# Altium integrated library Infineon_Power_MOSFET.IntLib: 1448 symbols (part 38 of 47)
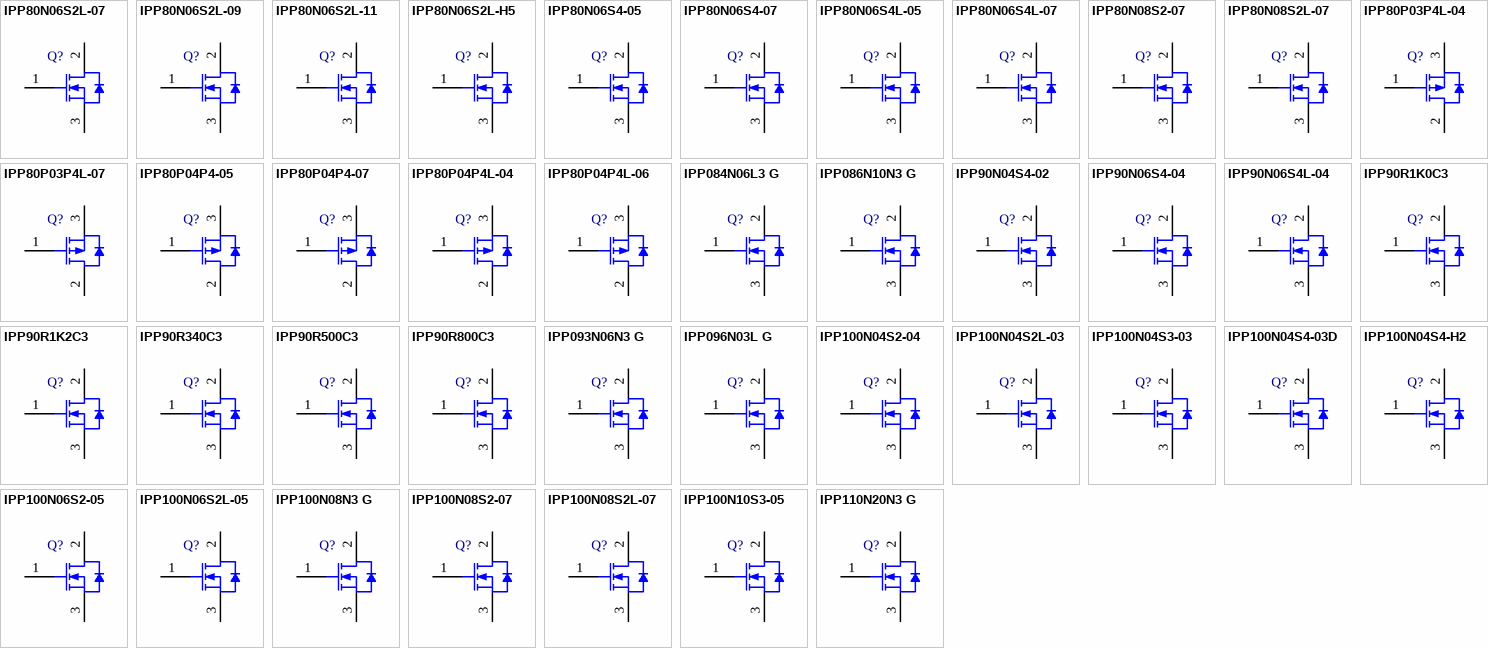
[diagram p74: symbols IPP80N06S2L-07 to IPP110N20N3 G]

## IPP100N06S2-05
designator Q?
OptiMOS Power-Transistor, 55 V VDS, 100 A ID, PG-TO220-3-1, Tube, Green; Manufacturer: Infineon; PartNumber: IPP100N06S2-05; Green: TRUE; ID (max): 100 A; IDpuls (max): 400 A; Ptot (max): 300 W; QG: 130 nC; RDS (on) (max) (@10V): 5 mOhm; RthJC (max): 0.5 K/W; VDS (max): 55 V; VGS(th) (max): 4 V; VGS(th) (min): 2.1 V; DatasheetVersion: Rev. 1.0; PackageVersion: Jul-12; PackageReference: PG-TO220-3-1; PackageDescription: 3-Pin Plastic (Green) Transistor Single Outline Package, 10 x 9.25 mm Body, 2.54 mm Pitch; Supplier 1: Mouser; Supplier Part Number 1: 726-IPP100N06S205; Supplier 2: Digi-Key; Supplier Part Number 2: IPP100N06S2-05-ND; Halogen-free: TRUE; Packing: Tube; Technology: OptiMOS; Mounting Technology: Through Hole; ComponentLink1Description: Manufacturer URL; ComponentLink1URL: http://www.infineon.com/; ComponentLink2Description: Datasheet; ComponentLink2URL: http://www.infineon.com/dgdl/IPP_B100N06S2-05_green.pdf?folderId=db3a304412b407950112b426db703ad9&fileId=db3a304412b407950112b43232be575e&location=en.Products.Automotive_ICs.Automotive_MOSFETs.Single__N-Channel_55V_MOSFETs.DATASHEET.IPP_B100N06S2-05_green.pdf; ComponentLink3Description: Package Specification; ComponentLink3URL: http://www.infineon.com/dgdl/BTS117_DS_14.pdf?folderId=db3a30431400ef68011421b54e2e0564&fileId=db3a30433a747525013abff8302d549c&location=en.Products.Automotive_ICs.Smart_High-_and_Low-Side_Switches.HITFET___TEMPFET__-_Smart_Low-Side_Switches.DATASHEET.BTS117_DS_14.pdf
footprint INF-PG-TO220-3-1 (FM, 3-Leads, Body 10x4.4mm, Pitch 2.54mm)
pins: 1 GATE, 2 DRAIN, 3 SOURCE

## IPP100N06S2L-05
designator Q?
OptiMOS Power-Transistor, 55 V VDS, 100 A ID, PG-TO220-3-1, Tube, Green; Manufacturer: Infineon; PartNumber: IPP100N06S2L-05; Green: TRUE; ID (max): 100 A; IDpuls (max): 400 A; Ptot (max): 300 W; QG: 170 nC; RDS (on) (max) (@10V): 4.7 mOhm; RDS (on) (max) (@4.5V): 5.9 mOhm; RthJC (max): 0.5 K/W; VDS (max): 55 V; VGS(th) (max): 2 V; VGS(th) (min): 1.2 V; DatasheetVersion: Rev. 1.0; PackageVersion: Jul-12; PackageReference: PG-TO220-3-1; PackageDescription: 3-Pin Plastic (Green) Transistor Single Outline Package, 10 x 9.25 mm Body, 2.54 mm Pitch; Supplier 1: Mouser; Supplier Part Number 1: 726-IPP100N06S2L05; Supplier 2: Digi-Key; Supplier Part Number 2: IPP100N06S2L-05-ND; Halogen-free: TRUE; Packing: Tube; Technology: OptiMOS; Mounting Technology: Through Hole; ComponentLink1Description: Manufacturer URL; ComponentLink1URL: http://www.infineon.com/; ComponentLink2Description: Datasheet; ComponentLink2URL: http://www.infineon.com/dgdl/IPP_B100N06S2L-05_green.pdf?folderId=db3a304412b407950112b408e8c90004&fileId=db3a304412b407950112b4322a685747&location=en.Products.Automotive_ICs.Automotive_MOSFETs.Single__N-Channel_55V_MOSFETs.DATASHEET.IPP_B100N06S2L-05_green.pdf; ComponentLink3Description: Package Specification; ComponentLink3URL: http://www.infineon.com/dgdl/BTS117_DS_14.pdf?folderId=db3a30431400ef68011421b54e2e0564&fileId=db3a30433a747525013abff8302d549c&location=en.Products.Automotive_ICs.Smart_High-_and_Low-Side_Switches.HITFET___TEMPFET__-_Smart_Low-Side_Switches.DATASHEET.BTS117_DS_14.pdf
footprint INF-PG-TO220-3-1 (FM, 3-Leads, Body 10x4.4mm, Pitch 2.54mm)
pins: 1 GATE, 2 DRAIN, 3 SOURCE

## IPP100N08N3 G
designator Q?
N-Channel OptiMOS 3 Power-Transistor, 80 V VDS, 70 A ID, -55 to 175 degC, PG-TO220-3-1, Tube, Green; Manufacturer: Infineon; PartNumber: IPP100N08N3 G; Green: TRUE; ID (max): 70 A; IDpuls (max): 280 A; Polarity: N; Ptot (max): 100 W; QG: 26 nC; RDS (on) (max): 9.7 mOhm; Rth: 1.5 K/W; RthJA (max): 62 K/W; RthJC (max): 1.5 K/W; VDS (max): 80 V; VGS(th) (max): 3.5 V; VGS(th) (min): 2 V; DatasheetVersion: Rev. 2.2; PackageVersion: Rev. 05, 08/2007; PackageReference: PG-TO220-3-1; PackageDescription: 3-Pin Plastic (Green) Transistor Single Outline Package, 10.03 x 8.98 mm Body, 2.54 mm Pitch; Supplier 1: Mouser; Supplier Part Number 1: 726-IPP100N08N3G; Supplier 2: Digi-Key; Supplier Part Number 2: IPP100N08N3 G-ND; Halogen-free: TRUE; Packing: Tube; Mounting Technology: Through Hole; ComponentLink1Description: Manufacturer URL; ComponentLink1URL: http://www.infineon.com/; ComponentLink2Description: Datasheet; ComponentLink2URL: http://www.infineon.com/dgdl/IPP_I_B100N08N3_Rev2.2.pdf?folderId=db3a304313b8b5a60113cee8763b02d7&fileId=db3a30431ddc9372011e071f53b82619; ComponentLink3Description: Package Specification; ComponentLink3URL: http://www.infineon.com/dgdl/IPP028N08N3_Rev1%5B1%5D.0.pdf?folderId=db3a304313b8b5a60113cee8763b02d7&fileId=db3a30432313ff5e0123a3c08e7326b5
footprint INF-PG-TO220-3-1_A_V (FM, 3-Leads, Body 10.03x8.98mm, Pitch 2.54mm)
pins: 1 GATE, 2 DRAIN, 3 SOURCE

## IPP100N08S2-07
designator Q?
OptiMOS Power-Transistor, 75 V VDS, 100 A ID, PG-TO220-3-1, Tube, Green; Manufacturer: Infineon; PartNumber: IPP100N08S2-07; Green: TRUE; ID (max): 100 A; IDpuls (max): 400 A; Ptot (max): 300 W; QG: 144 nC; RDS (on) (max) (@10V): 7.1 mOhm; RthJC (max): 0.5 K/W; VDS (max): 75 V; VGS(th) (max): 4 V; VGS(th) (min): 2.1 V; DatasheetVersion: Rev. 1.0; PackageVersion: Jul-12; PackageReference: PG-TO220-3-1; PackageDescription: 3-Pin Plastic (Green) Transistor Single Outline Package, 10 x 9.25 mm Body, 2.54 mm Pitch; Supplier 1: Mouser; Supplier Part Number 1: 726-IPP100N08S207; Supplier 2: Digi-Key; Supplier Part Number 2: IPP100N08S2-07-ND; Halogen-free: TRUE; Packing: Tube; Technology: OptiMOS; Mounting Technology: Through Hole; ComponentLink1Description: Manufacturer URL; ComponentLink1URL: http://www.infineon.com/; ComponentLink2Description: Datasheet; ComponentLink2URL: http://www.infineon.com/dgdl/IPP_B_I100N08S2-07_green.pdf?folderId=db3a304412b407950112b408e8c90004&fileId=db3a304412b407950112b426e4463ae7&location=en.Products.Automotive_ICs.Automotive_MOSFETs.Single__N-Channel_75V_MOSFETs.DATASHEET.IPP_B_I100N08S2-07_green.pdf; ComponentLink3Description: Package Specification; ComponentLink3URL: http://www.infineon.com/dgdl/BTS117_DS_14.pdf?folderId=db3a30431400ef68011421b54e2e0564&fileId=db3a30433a747525013abff8302d549c&location=en.Products.Automotive_ICs.Smart_High-_and_Low-Side_Switches.HITFET___TEMPFET__-_Smart_Low-Side_Switches.DATASHEET.BTS117_DS_14.pdf
footprint INF-PG-TO220-3-1 (FM, 3-Leads, Body 10x4.4mm, Pitch 2.54mm)
pins: 1 GATE, 2 DRAIN, 3 SOURCE

## IPP100N08S2L-07
designator Q?
OptiMOS Power-Transistor, 75 V VDS, 100 A ID, PG-TO220-3-1, Tube, Green; Manufacturer: Infineon; PartNumber: IPP100N08S2L-07; Green: TRUE; ID (max): 100 A; IDpuls (max): 400 A; Ptot (max): 300 W; QG: 182 nC; RDS (on) (max) (@10V): 6.8 mOhm; RthJC (max): 0.5 K/W; VDS (max): 75 V; VGS(th) (max): 2 V; VGS(th) (min): 1.2 V; DatasheetVersion: Rev. 1.0; PackageVersion: Jul-12; PackageReference: PG-TO220-3-1; PackageDescription: 3-Pin Plastic (Green) Transistor Single Outline Package, 10 x 9.25 mm Body, 2.54 mm Pitch; Supplier 1: Mouser; Supplier Part Number 1: 726-IPP100N08S2L07; Supplier 2: Digi-Key; Supplier Part Number 2: IPP100N08S2L-07-ND; Halogen-free: TRUE; Packing: Tube; Technology: OptiMOS; Mounting Technology: Through Hole; ComponentLink1Description: Manufacturer URL; ComponentLink1URL: http://www.infineon.com/; ComponentLink2Description: Datasheet; ComponentLink2URL: http://www.infineon.com/dgdl/IPP_B100N08S2L-07_green.pdf?folderId=db3a304412b407950112b408e8c90004&fileId=db3a304412b407950112b426f2e93b17&location=en.Products.Automotive_ICs.Automotive_MOSFETs.Single__N-Channel_75V_MOSFETs.DATASHEET.IPP_B100N08S2L-07_green.pdf; ComponentLink3Description: Package Specification; ComponentLink3URL: http://www.infineon.com/dgdl/BTS117_DS_14.pdf?folderId=db3a30431400ef68011421b54e2e0564&fileId=db3a30433a747525013abff8302d549c&location=en.Products.Automotive_ICs.Smart_High-_and_Low-Side_Switches.HITFET___TEMPFET__-_Smart_Low-Side_Switches.DATASHEET.BTS117_DS_14.pdf
footprint INF-PG-TO220-3-1 (FM, 3-Leads, Body 10x4.4mm, Pitch 2.54mm)
pins: 1 GATE, 2 DRAIN, 3 SOURCE

## IPP100N10S3-05
designator Q?
OptiMOS-T Power-Transistor, 100 V VDS, 100 A ID, PG-TO220-3-1, Tube, Green; Manufacturer: Infineon; PartNumber: IPP100N10S3-05; Green: TRUE; ID (max): 100 A; IDpuls (max): 400 A; Ptot (max): 300 W; QG: 135 nC; RDS (on) (max) (@10V): 5.1 mOhm; RthJC (max): 0.5 K/W; VDS (max): 100 V; VGS(th) (max): 4 V; VGS(th) (min): 2 V; DatasheetVersion: Rev. 1.0; PackageVersion: Jul-12; PackageReference: PG-TO220-3-1; PackageDescription: 3-Pin Plastic (Green) Transistor Single Outline Package, 10 x 9.25 mm Body, 2.54 mm Pitch; Supplier 1: Mouser; Supplier Part Number 1: 726-IPP100N10S305; Supplier 2: Digi-Key; Supplier Part Number 2: IPP100N10S3-05-ND; Halogen-free: TRUE; Packing: Tube; Technology: OptiMOS-T; Mounting Technology: Through Hole; ComponentLink1Description: Manufacturer URL; ComponentLink1URL: http://www.infineon.com/; ComponentLink2Description: Datasheet; ComponentLink2URL: http://www.infineon.com/dgdl/IPP_B_I100N10S3-05_neu.pdf?folderId=db3a3043156fd5730115c7d50620107c&fileId=db3a30431a5c32f2011a908bd4d8595c&location=en.Products.Automotive_ICs.Automotive_MOSFETs.Single__N-Channel_100V_MOSFETs.DATASHEET.IPP_B_I100N10S3-05_neu.pdf; ComponentLink3Description: Package Specification; ComponentLink3URL: http://www.infineon.com/dgdl/BTS117_DS_14.pdf?folderId=db3a30431400ef68011421b54e2e0564&fileId=db3a30433a747525013abff8302d549c&location=en.Products.Automotive_ICs.Smart_High-_and_Low-Side_Switches.HITFET___TEMPFET__-_Smart_Low-Side_Switches.DATASHEET.BTS117_DS_14.pdf
footprint INF-PG-TO220-3-1 (FM, 3-Leads, Body 10x4.4mm, Pitch 2.54mm)
pins: 1 GATE, 2 DRAIN, 3 SOURCE

## IPP110N20N3 G
designator Q?
N-Channel OptiMOS 3 Power-Transistor, 200 V VDS, 88 A ID, -55 to 175 degC, PG-TO220-3-1, Tube, Green; Manufacturer: Infineon; PartNumber: IPP110N20N3 G; Green: TRUE; ID (max): 88 A; IDpuls (max): 352 A; Polarity: N; Ptot (max): 300 W; QG: 65 nC; RDS (on) (max): 11 mOhm; Rth: 0.5 K/W; RthJA (max): 62 K/W; VDS (max): 200 V; VGS(th) (max): 4 V; VGS(th) (min): 2 V; DatasheetVersion: Rev. 2.3; PackageVersion: Rev. 05, 08/2007; PackageReference: PG-TO220-3-1; PackageDescription: 3-Pin Plastic (Green) Transistor Single Outline Package, 10.03 x 8.98 mm Body, 2.54 mm Pitch; Supplier 1: Mouser; Supplier Part Number 1: 726-IPP110N20N3G; Supplier 2: Newark; Supplier Part Number 2: 47W3478; Supplier 3: Farnell; Supplier Part Number 3: 2212835; Supplier 4: Digi-Key; Supplier Part Number 4: IPP110N20N3 G-ND; Halogen-free: TRUE; Packing: Tube; RthJC (max): 0.5 K/W; Mounting Technology: Through Hole; ComponentLink1Description: Manufacturer URL; ComponentLink1URL: http://www.infineon.com/; ComponentLink2Description: Datasheet; ComponentLink2URL: http://www.infineon.com/dgdl/IPP_I_110N20N3+G_IPB107N20N3+G+Rev2.3.pdf?folderId=db3a3043163797a6011637d4bae7003b&fileId=db3a3043243b5f170124968e7d1f18e7; ComponentLink3Description: Package Specification; ComponentLink3URL: http://www.infineon.com/dgdl/IPP028N08N3_Rev1%5B1%5D.0.pdf?folderId=db3a304313b8b5a60113cee8763b02d7&fileId=db3a30432313ff5e0123a3c08e7326b5
footprint INF-PG-TO220-3-1_A_V (FM, 3-Leads, Body 10.03x8.98mm, Pitch 2.54mm)
pins: 1 GATE, 2 DRAIN, 3 SOURCE

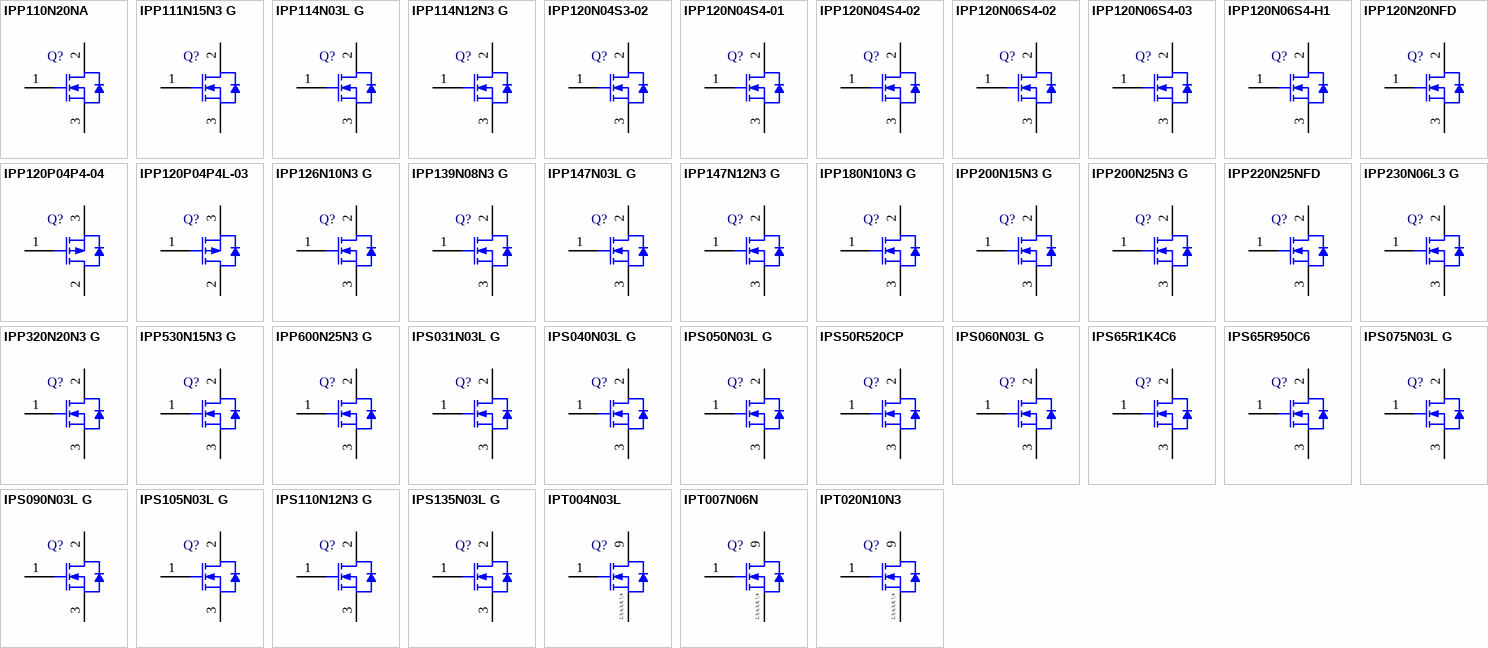
[diagram p30: symbols IPP110N20NA to IPT020N10N3]

## IPP110N20NA
designator Q?
N-Channel OptiMOS 3 Power-Transistor, 200 V VDS, 88 A ID, -55 to 175 degC, PG-TO220-3-1, Tube, Green; Manufacturer: Infineon; PartNumber: IPP110N20NA; Green: TRUE; ID (max): 88 A; IDpuls (max): 352 A; Polarity: N; Ptot (max): 300 W; QG: 65 nC; RDS (on) (max): 11 mOhm; Rth: 0.5 K/W; RthJA (max): 62 K/W; VDS (max): 200 V; VGS(th) (max): 4 V; VGS(th) (min): 2 V; DatasheetVersion: Rev. 2.1; PackageVersion: Rev. 05, 08/2007; PackageReference: PG-TO220-3-1; PackageDescription: 3-Pin Plastic (Green) Transistor Single Outline Package, 10.03 x 8.98 mm Body, 2.54 mm Pitch; Supplier 1: Digi-Key; Supplier Part Number 1: IPP110N20NA-ND; Halogen-free: TRUE; Packing: Tube; RthJC (max): 0.5 K/W; Mounting Technology: Through Hole; ComponentLink1Description: Manufacturer URL; ComponentLink1URL: http://www.infineon.com/; ComponentLink2Description: Datasheet; ComponentLink2URL: http://www.infineon.com/dgdl/IPP110N20NA_IPB107N20NA+Rev2.1.pdf?folderId=db3a304325305e6d012596c6ca7b290a&fileId=db3a3043300464130130307ce52a20a3; ComponentLink3Description: Package Specification; ComponentLink3URL: http://www.infineon.com/dgdl/IPP028N08N3_Rev1%5B1%5D.0.pdf?folderId=db3a304313b8b5a60113cee8763b02d7&fileId=db3a30432313ff5e0123a3c08e7326b5
footprint INF-PG-TO220-3-1_A_V (FM, 3-Leads, Body 10.03x8.98mm, Pitch 2.54mm)
pins: 1 GATE, 2 DRAIN, 3 SOURCE

## IPP111N15N3 G
designator Q?
N-Channel OptiMOS 3 Power-Transistor, 150 V VDS, 83 A ID, -55 to 175 degC, PG-TO220-3-1, Tube, Green; Manufacturer: Infineon; PartNumber: IPP111N15N3 G; Green: TRUE; ID (max): 83 A; IDpuls (max): 332 A; Polarity: N; Ptot (max): 214 W; QG: 41 nC; RDS (on) (max): 11.1 mOhm; Rth: 0.7 K/W; RthJA (max): 62 K/W; RthJC (max): 0.7 K/W; VDS (max): 150 V; VGS(th) (max): 4 V; VGS(th) (min): 2 V; DatasheetVersion: Rev. 2.1; PackageVersion: Rev. 05, 08/2007; PackageReference: PG-TO220-3-1; PackageDescription: 3-Pin Plastic (Green) Transistor Single Outline Package, 10.03 x 8.98 mm Body, 2.54 mm Pitch; Supplier 1: Mouser; Supplier Part Number 1: 726-IPP111N15N3G; Supplier 2: Digi-Key; Supplier Part Number 2: IPP111N15N3 G-ND; Halogen-free: TRUE; Packing: Tube; Mounting Technology: Through Hole; ComponentLink1Description: Manufacturer URL; ComponentLink1URL: http://www.infineon.com/; ComponentLink2Description: Datasheet; ComponentLink2URL: http://www.infineon.com/dgdl/IPP_I111N15N3+G_IPB108N15N3+G_Rev2.1.pdf?folderId=db3a304325305e6d01254a567c041b4e&fileId=db3a304325305e6d01254a5795541b4f; ComponentLink3Description: Package Specification; ComponentLink3URL: http://www.infineon.com/dgdl/IPP028N08N3_Rev1%5B1%5D.0.pdf?folderId=db3a304313b8b5a60113cee8763b02d7&fileId=db3a30432313ff5e0123a3c08e7326b5
footprint INF-PG-TO220-3-1_A_V (FM, 3-Leads, Body 10.03x8.98mm, Pitch 2.54mm)
pins: 1 GATE, 2 DRAIN, 3 SOURCE

## IPP114N03L G
designator Q?
N-Channel OptiMOS 3 Power-Transistor, 30 V VDS, 30 A ID, -55 to 175 degC, PG-TO220-3-1, Tube, Green; Manufacturer: Infineon; PartNumber: IPP114N03L G; Green: TRUE; ID (max): 30 A; IDpuls (max): 120 A; Polarity: N; Ptot (max): 38 W; QG: 7 nC; RDS (on) (max): 11.4 mOhm; RDS (on) (max) (@4.5V): 16.4 mOhm; Rth: 3.9 K/W; RthJA (max): 62 K/W; RthJC (max): 3.9 K/W; VDS (max): 30 V; VGS(th) (max): 2.2 V; VGS(th) (min): 1 V; DatasheetVersion: Rev. 2.0; PackageVersion: Rev. 05, 08/2007; PackageReference: PG-TO220-3-1; PackageDescription: 3-Pin Plastic (Green) Transistor Single Outline Package, 10.03 x 8.98 mm Body, 2.54 mm Pitch; Supplier 1: Newark; Supplier Part Number 1: 60R2753; Supplier 2: Farnell; Supplier Part Number 2: 1775642; Supplier 3: Digi-Key; Supplier Part Number 3: IPP114N03LGIN-ND; Halogen-free: TRUE; Packing: Tube; Mounting Technology: Through Hole; ComponentLink1Description: Manufacturer URL; ComponentLink1URL: http://www.infineon.com/; ComponentLink2Description: Datasheet; ComponentLink2URL: http://www.infineon.com/dgdl/IPP114N03L_rev2.pdf?folderId=db3a304313b8b5a60113cee8763b02d7&fileId=db3a30432313ff5e01239ee744fb70ed; ComponentLink3Description: Package Specification; ComponentLink3URL: http://www.infineon.com/dgdl/IPP028N08N3_Rev1%5B1%5D.0.pdf?folderId=db3a304313b8b5a60113cee8763b02d7&fileId=db3a30432313ff5e0123a3c08e7326b5
footprint INF-PG-TO220-3-1_A_V (FM, 3-Leads, Body 10.03x8.98mm, Pitch 2.54mm)
pins: 1 GATE, 2 DRAIN, 3 SOURCE

## IPP114N12N3 G
designator Q?
N-Channel OptiMOS 3 Power-Transistor, 120 V VDS, 75 A ID, -55 to 175 degC, PG-TO220-3-1, Tube, Green; Manufacturer: Infineon; PartNumber: IPP114N12N3 G; Green: TRUE; ID (max): 75 A; IDpuls (max): 300 A; Polarity: N; Ptot (max): 136 W; QG: 49 nC; RDS (on) (max): 11.4 mOhm; Rth: 1.1 K/W; RthJA (max): 62 K/W; RthJC (max): 1.1 K/W; VDS (max): 120 V; VGS(th) (max): 4 V; VGS(th) (min): 2 V; DatasheetVersion: Rev. 2.4; PackageVersion: Rev. 05, 08/2007; PackageReference: PG-TO220-3-1; PackageDescription: 3-Pin Plastic (Green) Transistor Single Outline Package, 10.03 x 8.98 mm Body, 2.54 mm Pitch; Supplier 1: Mouser; Supplier Part Number 1: 726-IPP114N12N3G; Supplier 2: Digi-Key; Supplier Part Number 2: IPP114N12N3 G-ND; Halogen-free: TRUE; Packing: Tube; Mounting Technology: Through Hole; ComponentLink1Description: Manufacturer URL; ComponentLink1URL: http://www.infineon.com/; ComponentLink2Description: Datasheet; ComponentLink2URL: http://www.infineon.com/dgdl/IPP114N12N3+G_Rev2.4.pdf?folderId=db3a304313b8b5a60113cee8763b02d7&fileId=db3a30432239cccd0122a78772727cf1; ComponentLink3Description: Package Specification; ComponentLink3URL: http://www.infineon.com/dgdl/IPP028N08N3_Rev1%5B1%5D.0.pdf?folderId=db3a304313b8b5a60113cee8763b02d7&fileId=db3a30432313ff5e0123a3c08e7326b5
footprint INF-PG-TO220-3-1_A_V (FM, 3-Leads, Body 10.03x8.98mm, Pitch 2.54mm)
pins: 1 GATE, 2 DRAIN, 3 SOURCE

## IPP120N04S3-02
designator Q?
OptiMOS-T Power-Transistor, 40 V VDS, 120 A ID, PG-TO220-3-1, Tube, Green; Manufacturer: Infineon; PartNumber: IPP120N04S3-02; Green: TRUE; ID (max): 120 A; IDpuls (max): 480 A; Ptot (max): 300 W; QG: 160 nC; RDS (on) (max) (@10V): 2.3 mOhm; RthJC (max): 0.5 K/W; VDS (max): 40 V; VGS(th) (max): 4 V; VGS(th) (min): 2.1 V; DatasheetVersion: Rev. 1.0; PackageVersion: Jul-12; PackageReference: PG-TO220-3-1; PackageDescription: 3-Pin Plastic (Green) Transistor Single Outline Package, 10 x 9.25 mm Body, 2.54 mm Pitch; Supplier 1: Mouser; Supplier Part Number 1: 726-IPP120N04S3-02; Supplier 2: Digi-Key; Supplier Part Number 2: IPP120N04S3-02-ND; Halogen-free: TRUE; Packing: Tube; Technology: OptiMOS-T; Mounting Technology: Through Hole; ComponentLink1Description: Manufacturer URL; ComponentLink1URL: http://www.infineon.com/; ComponentLink2Description: Datasheet; ComponentLink2URL: http://www.infineon.com/dgdl/IPP_B_I120N04S3-02_DS_1_0.pdf?folderId=db3a304412b407950112b42b75b74520&fileId=db3a304412b407950112b42ba1cd4583&location=en.Products.Automotive_ICs.Automotive_MOSFETs.Single__N-Channel_40V_MOSFETs.DATASHEET.IPP_B_I120N04S3-02_DS_1_0.pdf; ComponentLink3Description: Package Specification; ComponentLink3URL: http://www.infineon.com/dgdl/BTS117_DS_14.pdf?folderId=db3a30431400ef68011421b54e2e0564&fileId=db3a30433a747525013abff8302d549c&location=en.Products.Automotive_ICs.Smart_High-_and_Low-Side_Switches.HITFET___TEMPFET__-_Smart_Low-Side_Switches.DATASHEET.BTS117_DS_14.pdf
footprint INF-PG-TO220-3-1 (FM, 3-Leads, Body 10x4.4mm, Pitch 2.54mm)
pins: 1 GATE, 2 DRAIN, 3 SOURCE

## IPP120N04S4-01
designator Q?
OptiMOS-T2 Power-Transistor, 40 V VDS, 120 A ID, PG-TO220-3-1, Tube, Green; Manufacturer: Infineon; PartNumber: IPP120N04S4-01; Green: TRUE; ID (max): 120 A; IDpuls (max): 480 A; Ptot (max): 188 W; QG: 135 nC; RDS (on) (max) (@10V): 1.9 mOhm; RthJC (max): 0.8 K/W; VDS (max): 40 V; VGS(th) (max): 4 V; VGS(th) (min): 2 V; DatasheetVersion: Rev. 1.0; PackageVersion: Jul-12; PackageReference: PG-TO220-3-1; PackageDescription: 3-Pin Plastic (Green) Transistor Single Outline Package, 10 x 9.25 mm Body, 2.54 mm Pitch; Supplier 1: Mouser; Supplier Part Number 1: 726-IPP120N04S4-01; Supplier 2: Digi-Key; Supplier Part Number 2: IPP120N04S4-01-ND; Halogen-free: TRUE; Packing: Tube; Technology: OptiMOS-T2; Mounting Technology: Through Hole; ComponentLink1Description: Manufacturer URL; ComponentLink1URL: http://www.infineon.com/; ComponentLink2Description: Datasheet; ComponentLink2URL: http://www.infineon.com/dgdl/IPP_B_I120N04S4-01_DS_1_0.pdf?folderId=db3a304412b407950112b42b75b74520&fileId=db3a304328c6bd5c01291c2ebd3b5d27&location=en.Products.Automotive_ICs.Automotive_MOSFETs.Single__N-Channel_40V_MOSFETs.DATASHEET.IPP_B_I120N04S4-01_DS_1_0.pdf; ComponentLink3Description: Package Specification; ComponentLink3URL: http://www.infineon.com/dgdl/BTS117_DS_14.pdf?folderId=db3a30431400ef68011421b54e2e0564&fileId=db3a30433a747525013abff8302d549c&location=en.Products.Automotive_ICs.Smart_High-_and_Low-Side_Switches.HITFET___TEMPFET__-_Smart_Low-Side_Switches.DATASHEET.BTS117_DS_14.pdf
footprint INF-PG-TO220-3-1 (FM, 3-Leads, Body 10x4.4mm, Pitch 2.54mm)
pins: 1 GATE, 2 DRAIN, 3 SOURCE

## IPP120N04S4-02
designator Q?
OptiMOS-T2 Power-Transistor, 40 V VDS, 120 A ID, PG-TO220-3-1, Tube, Green; Manufacturer: Infineon; PartNumber: IPP120N04S4-02; Green: TRUE; ID (max): 120 A; IDpuls (max): 480 A; Ptot (max): 158 W; QG: 103 nC; RDS (on) (max) (@10V): 2.1 mOhm; RthJC (max): 0.95 K/W; VDS (max): 40 V; VGS(th) (max): 4 V; VGS(th) (min): 2 V; DatasheetVersion: Rev. 1.0; PackageVersion: Jul-12; PackageReference: PG-TO220-3-1; PackageDescription: 3-Pin Plastic (Green) Transistor Single Outline Package, 10 x 9.25 mm Body, 2.54 mm Pitch; Supplier 1: Mouser; Supplier Part Number 1: 726-IPP120N04S4-02; Supplier 2: Digi-Key; Supplier Part Number 2: IPP120N04S4-02-ND; Halogen-free: TRUE; Packing: Tube; Technology: OptiMOS-T2; Mounting Technology: Through Hole; ComponentLink1Description: Manufacturer URL; ComponentLink1URL: http://www.infineon.com/; ComponentLink2Description: Datasheet; ComponentLink2URL: http://www.infineon.com/dgdl/IPP_B_I120N04S4-02_DS_1_0.pdf?folderId=db3a304412b407950112b42b75b74520&fileId=db3a304328c6bd5c01291c33093d5d37&location=en.Products.Automotive_ICs.Automotive_MOSFETs.Single__N-Channel_40V_MOSFETs.DATASHEET.IPP_B_I120N04S4-02_DS_1_0.pdf; ComponentLink3Description: Package Specification; ComponentLink3URL: http://www.infineon.com/dgdl/BTS117_DS_14.pdf?folderId=db3a30431400ef68011421b54e2e0564&fileId=db3a30433a747525013abff8302d549c&location=en.Products.Automotive_ICs.Smart_High-_and_Low-Side_Switches.HITFET___TEMPFET__-_Smart_Low-Side_Switches.DATASHEET.BTS117_DS_14.pdf
footprint INF-PG-TO220-3-1 (FM, 3-Leads, Body 10x4.4mm, Pitch 2.54mm)
pins: 1 GATE, 2 DRAIN, 3 SOURCE

## IPP120N06S4-02
designator Q?
OptiMOS-T2 Power-Transistor, 60 V VDS, 120 A ID, PG-TO220-3-1, Tube, Green; Manufacturer: Infineon; PartNumber: IPP120N06S4-02; Green: TRUE; ID (max): 120 A; IDpuls (max): 480 A; Ptot (max): 180 W; QG: 150 nC; RDS (on) (max) (@10V): 2.8 mOhm; RthJC (max): 0.8 K/W; VDS (max): 60 V; VGS(th) (max): 4 V; VGS(th) (min): 2 V; DatasheetVersion: Rev. 1.2; PackageVersion: Jul-12; PackageReference: PG-TO220-3-1; PackageDescription: 3-Pin Plastic (Green) Transistor Single Outline Package, 10 x 9.25 mm Body, 2.54 mm Pitch; Supplier 1: Mouser; Supplier Part Number 1: 726-IPP120N06S4-02; Supplier 2: Digi-Key; Supplier Part Number 2: IPP120N06S4-02-ND; Halogen-free: TRUE; Packing: Tube; Technology: OptiMOS-T2; Mounting Technology: Through Hole; ComponentLink1Description: Manufacturer URL; ComponentLink1URL: http://www.infineon.com/; ComponentLink2Description: Datasheet; ComponentLink2URL: http://www.infineon.com/dgdl/IPP_B_I120N06S4-02_DS_12.pdf?folderId=db3a30431a5c32f2011a8084a04a6500&fileId=db3a30431ff9881501203890b6410cb8&location=en.Products.Automotive_ICs.Automotive_MOSFETs.Single__N-Channel_60V_MOSFETs.DATASHEET.IPP_B_I120N06S4-02_DS_12.pdf; ComponentLink3Description: Package Specification; ComponentLink3URL: http://www.infineon.com/dgdl/BTS117_DS_14.pdf?folderId=db3a30431400ef68011421b54e2e0564&fileId=db3a30433a747525013abff8302d549c&location=en.Products.Automotive_ICs.Smart_High-_and_Low-Side_Switches.HITFET___TEMPFET__-_Smart_Low-Side_Switches.DATASHEET.BTS117_DS_14.pdf
footprint INF-PG-TO220-3-1 (FM, 3-Leads, Body 10x4.4mm, Pitch 2.54mm)
pins: 1 GATE, 2 DRAIN, 3 SOURCE

## IPP120N06S4-03
designator Q?
OptiMOS-T2 Power-Transistor, 60 V VDS, 120 A ID, PG-TO220-3-1, Tube, Green; Manufacturer: Infineon; PartNumber: IPP120N06S4-03; Green: TRUE; ID (max): 120 A; IDpuls (max): 480 A; Ptot (max): 167 W; QG: 125 nC; RDS (on) (max) (@10V): 3.2 mOhm; RthJC (max): 0.9 K/W; VDS (max): 60 V; VGS(th) (max): 4 V; VGS(th) (min): 2 V; DatasheetVersion: Rev. 1.0; PackageVersion: Jul-12; PackageReference: PG-TO220-3-1; PackageDescription: 3-Pin Plastic (Green) Transistor Single Outline Package, 10 x 9.25 mm Body, 2.54 mm Pitch; Supplier 1: Mouser; Supplier Part Number 1: 726-IPP120N06S4-03; Supplier 2: Digi-Key; Supplier Part Number 2: IPP120N06S4-03-ND; Halogen-free: TRUE; Packing: Tube; Technology: OptiMOS-T2; Mounting Technology: Through Hole; ComponentLink1Description: Manufacturer URL; ComponentLink1URL: http://www.infineon.com/; ComponentLink2Description: Datasheet; ComponentLink2URL: http://www.infineon.com/dgdl/IPP_B_I120N06S4-03_DS_10.pdf?folderId=db3a30431a5c32f2011a8084a04a6500&fileId=db3a30431ff98815012038c634110ccc&location=en.Products.Automotive_ICs.Automotive_MOSFETs.Single__N-Channel_60V_MOSFETs.DATASHEET.IPP_B_I120N06S4-03_DS_10.pdf; ComponentLink3Description: Package Specification; ComponentLink3URL: http://www.infineon.com/dgdl/BTS117_DS_14.pdf?folderId=db3a30431400ef68011421b54e2e0564&fileId=db3a30433a747525013abff8302d549c&location=en.Products.Automotive_ICs.Smart_High-_and_Low-Side_Switches.HITFET___TEMPFET__-_Smart_Low-Side_Switches.DATASHEET.BTS117_DS_14.pdf
footprint INF-PG-TO220-3-1 (FM, 3-Leads, Body 10x4.4mm, Pitch 2.54mm)
pins: 1 GATE, 2 DRAIN, 3 SOURCE

## IPP120N06S4-H1
designator Q?
OptiMOS Power-Transistor, 60 V VDS, 120 A ID, PG-TO220-3-1, Tube, Green; Manufacturer: Infineon; PartNumber: IPP120N06S4-H1; Green: TRUE; ID (max): 120 A; IDpuls (max): 480 A; Ptot (max): 250 W; QG: 208 nC; RDS (on) (max) (@10V): 2.4 mOhm; RthJC (max): 0.6 K/W; VDS (max): 60 V; VGS(th) (max): 4 V; VGS(th) (min): 2 V; DatasheetVersion: Rev. 1.0; PackageVersion: Jul-12; PackageReference: PG-TO220-3-1; PackageDescription: 3-Pin Plastic (Green) Transistor Single Outline Package, 10 x 9.25 mm Body, 2.54 mm Pitch; Supplier 1: Mouser; Supplier Part Number 1: 726-IPP120N06S4-H1; Supplier 2: Digi-Key; Supplier Part Number 2: IPP120N06S4-H1-ND; Halogen-free: TRUE; Packing: Tube; Technology: OptiMOS-T2; Mounting Technology: Through Hole; ComponentLink1Description: Manufacturer URL; ComponentLink1URL: http://www.infineon.com/; ComponentLink2Description: Datasheet; ComponentLink2URL: http://www.infineon.com/dgdl/IPP_B_I120N06S4-H1_DS_10.pdf?folderId=db3a30431a5c32f2011a8084a04a6500&fileId=db3a30431ff988150120388c9cf60caf&location=en.Products.Automotive_ICs.Automotive_MOSFETs.Single__N-Channel_60V_MOSFETs.DATASHEET.IPP_B_I120N06S4-H1_DS_10.pdf; ComponentLink3Description: Package Specification; ComponentLink3URL: http://www.infineon.com/dgdl/BTS117_DS_14.pdf?folderId=db3a30431400ef68011421b54e2e0564&fileId=db3a30433a747525013abff8302d549c&location=en.Products.Automotive_ICs.Smart_High-_and_Low-Side_Switches.HITFET___TEMPFET__-_Smart_Low-Side_Switches.DATASHEET.BTS117_DS_14.pdf
footprint INF-PG-TO220-3-1 (FM, 3-Leads, Body 10x4.4mm, Pitch 2.54mm)
pins: 1 GATE, 2 DRAIN, 3 SOURCE

## IPP120N20NFD
designator Q?
N-Channel OptiMOS(TM) FD Power-Transistor, 200 V VDS, 84 A ID, PG-TO220-3, Tube, Green; Manufacturer: Infineon; PartNumber: IPP120N20NFD; Green: TRUE; ID (max): 84 A; IDpuls (max): 336 A; Polarity: N; Ptot (max): 300 W; QG: 65 nC; RDS (on) (max): 12 mOhm; RthJA (max): 62 K/W; RthJC (max): 0.5 K/W; VDS (max): 200 V; VGS(th) (max): 4 V; VGS(th) (min): 2 V; DatasheetVersion: Rev. 2.0; PackageVersion: Rev. 05, 08/2007; PackageReference: PG-TO220-3-1_A; PackageDescription: 3-Pin Plastic (Green) Transistor Single Outline Package, 10.03 x 8.98 mm Body, 2.54 mm Pitch; Supplier 1: Mouser; Supplier Part Number 1: N/A; Halogen-free: TRUE; Mounting: THT; Packing: Tube; Technology: OptiMOS(TM)FD; Mounting Technology: Through Hole; ComponentLink1Description: Manufacturer URL; ComponentLink1URL: http://www.infineon.com/; ComponentLink2Description: Datasheet; ComponentLink2URL: http://www.infineon.com/dgdl/DS_IPP120N20NFD_2_0.pdf?folderId=db3a304325305e6d012596c6ca7b290a&fileId=db3a3043440adf7501440c77d8950149; ComponentLink3Description: Package Specification; ComponentLink3URL: http://www.infineon.com/dgdl/IKP30N65H5_2_1.pdf?folderId=db3a3043156fd5730115f56849b61941&fileId=5546d461464245d30146a51a2ca36d28
footprint INF-PG-TO220-3-1_A_V (FM, 3-Leads, Body 10.03x8.98mm, Pitch 2.54mm)
pins: 1 GATE, 2 DRAIN, 3 SOURCE

## IPP120P04P4-04
designator Q?
OptiMOS-P2 Power-Transistor, -40 V VDS, -120 A ID, PG-TO220-3-1, Tube, Green; Manufacturer: Infineon; PartNumber: IPP120P04P4-04; Green: TRUE; ID (max): -120 A; IDpuls (max): -480 A; Ptot (max): 136 W; QG: 158 nC; RDS (on) (max) (@10V): 3.8 mOhm; RthJC (max): 1.1 K/W; VDS (max): -40 V; VGS(th) (max): -4 V; VGS(th) (min): -2 V; DatasheetVersion: Rev. 1.0; PackageVersion: Jul-12; PackageReference: PG-TO220-3-1; PackageDescription: 3-Pin Plastic (Green) Transistor Single Outline Package, 10 x 9.25 mm Body, 2.54 mm Pitch; Supplier 1: Mouser; Supplier Part Number 1: 726-IPP120P04P4-04; Halogen-free: TRUE; Packing: Tube; Technology: OptiMOS-P2; Mounting Technology: Through Hole; ComponentLink1Description: Manufacturer URL; ComponentLink1URL: http://www.infineon.com/; ComponentLink2Description: Datasheet; ComponentLink2URL: http://www.infineon.com/dgdl/IPP_B_I120P04P4-04_DS10.pdf?folderId=db3a304412b407950112b42b75b74520&fileId=db3a30432f69f146012f784299de2e44&location=en.Products.Automotive_ICs.Automotive_MOSFETs.Single__P-Channel_40V_MOSFETs.DATASHEET.IPP_B_I120P04P4-04_DS10.pdf; ComponentLink3Description: Package Specification; ComponentLink3URL: http://www.infineon.com/dgdl/BTS117_DS_14.pdf?folderId=db3a30431400ef68011421b54e2e0564&fileId=db3a30433a747525013abff8302d549c&location=en.Products.Automotive_ICs.Smart_High-_and_Low-Side_Switches.HITFET___TEMPFET__-_Smart_Low-Side_Switches.DATASHEET.BTS117_DS_14.pdf
footprint INF-PG-TO220-3-1 (FM, 3-Leads, Body 10x4.4mm, Pitch 2.54mm)
pins: 1 GATE, 2 DRAIN, 3 SOURCE

## IPP120P04P4L-03
designator Q?
OptiMOS-P2 Power-Transistor, -40 V VDS, -120 A ID, PG-TO220-3-1, Tube, Green; Manufacturer: Infineon; PartNumber: IPP120P04P4L-03; Green: TRUE; ID (max): -120 A; IDpuls (max): -480 A; Ptot (max): 136 W; QG: 180 nC; RDS (on) (max) (@10V): 3.4 mOhm; RDS (on) (max) (@4.5V): 5.2 mOhm; RthJC (max): 1.1 K/W; VDS (max): -40 V; VGS(th) (max): -2.2 V; VGS(th) (min): -1.2 V; DatasheetVersion: Rev. 1.0; PackageVersion: Jul-12; PackageReference: PG-TO220-3-1; PackageDescription: 3-Pin Plastic (Green) Transistor Single Outline Package, 10 x 9.25 mm Body, 2.54 mm Pitch; Supplier 1: Mouser; Supplier Part Number 1: 726-IPP120P04P4L-03; Halogen-free: TRUE; Packing: Tube; Technology: OptiMOS-P2; Mounting Technology: Through Hole; ComponentLink1Description: Manufacturer URL; ComponentLink1URL: http://www.infineon.com/; ComponentLink2Description: Datasheet; ComponentLink2URL: http://www.infineon.com/dgdl/IPP_B_I120P04P4L-03_DS_10.pdf?folderId=db3a304412b407950112b42b75b74520&fileId=db3a30432f69f146012f783b3b5a2e3f&location=en.Products.Automotive_ICs.Automotive_MOSFETs.Single__P-Channel_40V_MOSFETs.DATASHEET.IPP_B_I120P04P4L-03_DS_10.pdf; ComponentLink3Description: Package Specification; ComponentLink3URL: http://www.infineon.com/dgdl/BTS117_DS_14.pdf?folderId=db3a30431400ef68011421b54e2e0564&fileId=db3a30433a747525013abff8302d549c&location=en.Products.Automotive_ICs.Smart_High-_and_Low-Side_Switches.HITFET___TEMPFET__-_Smart_Low-Side_Switches.DATASHEET.BTS117_DS_14.pdf
footprint INF-PG-TO220-3-1 (FM, 3-Leads, Body 10x4.4mm, Pitch 2.54mm)
pins: 1 GATE, 2 DRAIN, 3 SOURCE

## IPP126N10N3 G
designator Q?
N-Channel OptiMOS 3 Power-Transistor, 100 V VDS, 58 A ID, -55 to 175 degC, PG-TO220-3-1, Tube, Green; Manufacturer: Infineon; PartNumber: IPP126N10N3 G; Green: TRUE; ID (max): 58 A; IDpuls (max): 232 A; Polarity: N; Ptot (max): 94 W; QG: 26 nC; RDS (on) (max): 12.6 mOhm; Rth: 1.6 K/W; RthJA (max): 62 K/W; RthJC (max): 1.6 K/W; VDS (max): 100 V; VGS(th) (max): 3.5 V; VGS(th) (min): 2 V; DatasheetVersion: Rev. 2.3; PackageVersion: Rev. 05, 08/2007; PackageReference: PG-TO220-3-1; PackageDescription: 3-Pin Plastic (Green) Transistor Single Outline Package, 10.03 x 8.98 mm Body, 2.54 mm Pitch; Supplier 1: Mouser; Supplier Part Number 1: 726-IPP126N10N3G; Supplier 2: Digi-Key; Supplier Part Number 2: IPP126N10N3 G-ND; Halogen-free: TRUE; Packing: Tube; Mounting Technology: Through Hole; ComponentLink1Description: Manufacturer URL; ComponentLink1URL: http://www.infineon.com/; ComponentLink2Description: Datasheet; ComponentLink2URL: http://www.infineon.com/dgdl/IPP126N10N3+G_Rev2.3.pdf?folderId=db3a304313b8b5a60113cee8763b02d7&fileId=db3a30432239cccd012260508e027f74; ComponentLink3Description: Package Specification; ComponentLink3URL: http://www.infineon.com/dgdl/IPP028N08N3_Rev1%5B1%5D.0.pdf?folderId=db3a304313b8b5a60113cee8763b02d7&fileId=db3a30432313ff5e0123a3c08e7326b5
footprint INF-PG-TO220-3-1_A_V (FM, 3-Leads, Body 10.03x8.98mm, Pitch 2.54mm)
pins: 1 GATE, 2 DRAIN, 3 SOURCE

## IPP139N08N3 G
designator Q?
N-Channel OptiMOS 3 Power-Transistor, 80 V VDS, 45 A ID, -55 to 175 degC, PG-TO220-3-1, Tube, Green; Manufacturer: Infineon; PartNumber: IPP139N08N3 G; Green: TRUE; ID (max): 45 A; IDpuls (max): 180 A; Polarity: N; Ptot (max): 79 W; QG: 19 nC; RDS (on) (max): 13.9 mOhm; Rth: 1.9 K/W; RthJA (max): 62 K/W; VDS (max): 80 V; VGS(th) (max): 3.5 V; VGS(th) (min): 2 V; DatasheetVersion: Rev. 2.5; PackageVersion: Rev. 05, 08/2007; PackageReference: PG-TO220-3-1; PackageDescription: 3-Pin Plastic (Green) Transistor Single Outline Package, 10.03 x 8.98 mm Body, 2.54 mm Pitch; Supplier 1: Newark; Supplier Part Number 1: 60R2756; Supplier 2: Farnell; Supplier Part Number 2: 1775645; Supplier 3: Digi-Key; Supplier Part Number 3: IPP139N08N3 G-ND; Halogen-free: TRUE; Packing: Tube; RthJC (max): 1.9 K/W; Mounting Technology: Through Hole; ComponentLink1Description: Manufacturer URL; ComponentLink1URL: http://www.infineon.com/; ComponentLink2Description: Datasheet; ComponentLink2URL: http://www.infineon.com/dgdl/IPP139N08N3_Rev2.5.pdf?folderId=db3a304313b8b5a60113cee8763b02d7&fileId=db3a30431add1d95011ae8a77e3656c2; ComponentLink3Description: Package Specification; ComponentLink3URL: http://www.infineon.com/dgdl/IPP028N08N3_Rev1%5B1%5D.0.pdf?folderId=db3a304313b8b5a60113cee8763b02d7&fileId=db3a30432313ff5e0123a3c08e7326b5
footprint INF-PG-TO220-3-1_A_V (FM, 3-Leads, Body 10.03x8.98mm, Pitch 2.54mm)
pins: 1 GATE, 2 DRAIN, 3 SOURCE

## IPP147N03L G
designator Q?
N-Channel OptiMOS 3 Power-Transistor, 30 V VDS, 20 A ID, -55 to 175 degC, PG-TO220-3-1, Tube, Green; Manufacturer: Infineon; PartNumber: IPP147N03L G; Green: TRUE; ID (max): 20 A; IDpuls (max): 80 A; Polarity: N; Ptot (max): 31 W; QG: 5 nC; RDS (on) (max): 14.7 mOhm; RDS (on) (max) (@4.5V): 21.7 mOhm; Rth: 4.9 K/W; RthJA (max): 62 K/W; VDS (max): 30 V; VGS(th) (max): 2.2 V; VGS(th) (min): 1 V; DatasheetVersion: Rev. 2.0; PackageVersion: Rev. 05, 08/2007; PackageReference: PG-TO220-3-1; PackageDescription: 3-Pin Plastic (Green) Transistor Single Outline Package, 10.03 x 8.98 mm Body, 2.54 mm Pitch; Supplier 1: Mouser; Supplier Part Number 1: 726-IPP147N03LG; Supplier 2: Digi-Key; Supplier Part Number 2: IPP147N03LGIN-ND; Halogen-free: TRUE; Packing: Tube; RthJC (max): 4.9 K/W; Mounting Technology: Through Hole; ComponentLink1Description: Manufacturer URL; ComponentLink1URL: http://www.infineon.com/; ComponentLink2Description: Datasheet; ComponentLink2URL: http://www.infineon.com/dgdl/IPP147N03L_rev2%5B1%5D.pdf?folderId=db3a304412b407950112b408e8c90004&fileId=db3a304412b407950112b4277a093c43; ComponentLink3Description: Package Specification; ComponentLink3URL: http://www.infineon.com/dgdl/IPP028N08N3_Rev1%5B1%5D.0.pdf?folderId=db3a304313b8b5a60113cee8763b02d7&fileId=db3a30432313ff5e0123a3c08e7326b5
footprint INF-PG-TO220-3-1_A_V (FM, 3-Leads, Body 10.03x8.98mm, Pitch 2.54mm)
pins: 1 GATE, 2 DRAIN, 3 SOURCE

## IPP147N12N3 G
designator Q?
N-Channel OptiMOS 3 Power-Transistor, 120 V VDS, 56 A ID, -55 to 175 degC, PG-TO220-3-1, Tube, Green; Manufacturer: Infineon; PartNumber: IPP147N12N3 G; Green: TRUE; ID (max): 56 A; IDpuls (max): 224 A; Polarity: N; Ptot (max): 107 W; QG: 37 nC; RDS (on) (max): 14.7 mOhm; Rth: 1.4 K/W; RthJA (max): 62 K/W; VDS (max): 120 V; VGS(th) (max): 4 V; VGS(th) (min): 2 V; DatasheetVersion: Rev. 2.6; PackageVersion: Rev. 05, 08/2007; PackageReference: PG-TO220-3-1; PackageDescription: 3-Pin Plastic (Green) Transistor Single Outline Package, 10.03 x 8.98 mm Body, 2.54 mm Pitch; Supplier 1: Mouser; Supplier Part Number 1: 726-IPP147N12N3G; Supplier 2: Digi-Key; Supplier Part Number 2: IPP147N12N3 G-ND; Halogen-free: TRUE; Packing: Tube; RthJC (max): 1.4 K/W; Mounting Technology: Through Hole; ComponentLink1Description: Manufacturer URL; ComponentLink1URL: http://www.infineon.com/; ComponentLink2Description: Datasheet; ComponentLink2URL: http://www.infineon.com/dgdl/IPP_I_B147N12N3+G_Rev2.6.pdf?folderId=db3a304313b8b5a60113cee8763b02d7&fileId=db3a30432239cccd0122a79a30f57d01; ComponentLink3Description: Package Specification; ComponentLink3URL: http://www.infineon.com/dgdl/IPP028N08N3_Rev1%5B1%5D.0.pdf?folderId=db3a304313b8b5a60113cee8763b02d7&fileId=db3a30432313ff5e0123a3c08e7326b5
footprint INF-PG-TO220-3-1_A_V (FM, 3-Leads, Body 10.03x8.98mm, Pitch 2.54mm)
pins: 1 GATE, 2 DRAIN, 3 SOURCE

## IPP180N10N3 G
designator Q?
N-Channel OptiMOS 3 Power-Transistor, 100 V VDS, 43 A ID, -55 to 175 degC, PG-TO220-3-1, Tube, Green; Manufacturer: Infineon; PartNumber: IPP180N10N3 G; Green: TRUE; ID (max): 43 A; IDpuls (max): 172 A; Polarity: N; Ptot (max): 71 W; QG: 19 nC; RDS (on) (max): 18 mOhm; Rth: 2.1 K/W; RthJA (max): 62 K/W; RthJC (max): 2.1 K/W; VDS (max): 100 V; VGS(th) (max): 3.5 V; VGS(th) (min): 2 V; DatasheetVersion: Rev. 2.2; PackageVersion: Rev. 05, 08/2007; PackageReference: PG-TO220-3-1; PackageDescription: 3-Pin Plastic (Green) Transistor Single Outline Package, 10.03 x 8.98 mm Body, 2.54 mm Pitch; Supplier 1: Mouser; Supplier Part Number 1: 726-IPP180N10N3G; Supplier 2: Digi-Key; Supplier Part Number 2: IPP180N10N3 G-ND; Halogen-free: TRUE; Packing: Tube; Mounting Technology: Through Hole; ComponentLink1Description: Manufacturer URL; ComponentLink1URL: http://www.infineon.com/; ComponentLink2Description: Datasheet; ComponentLink2URL: http://www.infineon.com/dgdl/IPP180N10N3+G+Rev2.2.pdf?folderId=db3a304313b8b5a60113cee8763b02d7&fileId=db3a30432239cccd01226066faa07f9d; ComponentLink3Description: Package Specification; ComponentLink3URL: http://www.infineon.com/dgdl/IPP028N08N3_Rev1%5B1%5D.0.pdf?folderId=db3a304313b8b5a60113cee8763b02d7&fileId=db3a30432313ff5e0123a3c08e7326b5
footprint INF-PG-TO220-3-1_A_V (FM, 3-Leads, Body 10.03x8.98mm, Pitch 2.54mm)
pins: 1 GATE, 2 DRAIN, 3 SOURCE

## IPP200N15N3 G
designator Q?
N-Channel OptiMOS 3 Power-Transistor, 150 V VDS, 50 A ID, -55 to 175 degC, PG-TO220-3-1, Tube, Green; Manufacturer: Infineon; PartNumber: IPP200N15N3 G; Green: TRUE; ID (max): 50 A; IDpuls (max): 200 A; Polarity: N; Ptot (max): 150 W; QG: 23 nC; RDS (on) (max): 20 mOhm; Rth: 1 K/W; RthJA (max): 75 K/W; VDS (max): 150 V; VGS(th) (max): 4 V; VGS(th) (min): 2 V; DatasheetVersion: Rev. 2.05; PackageVersion: Rev. 05, 08/2007; PackageReference: PG-TO220-3-1; PackageDescription: 3-Pin Plastic (Green) Transistor Single Outline Package, 10.03 x 8.98 mm Body, 2.54 mm Pitch; Supplier 1: Mouser; Supplier Part Number 1: 726-IPP200N15N3G; Supplier 2: Newark; Supplier Part Number 2: 60R2760; Supplier 3: Farnell; Supplier Part Number 3: 1775651; Supplier 4: Digi-Key; Supplier Part Number 4: IPP200N15N3 G-ND; Halogen-free: TRUE; Packing: Tube; RthJC (max): 1 K/W; Mounting Technology: Through Hole; ComponentLink1Description: Manufacturer URL; ComponentLink1URL: http://www.infineon.com/; ComponentLink2Description: Datasheet; ComponentLink2URL: http://www.infineon.com/dgdl/IPD200N15N3_Rev25.pdf?folderId=db3a304313b8b5a60113cee8763b02d7&fileId=db3a30432313ff5e01239a0457643bbc; ComponentLink3Description: Package Specification; ComponentLink3URL: http://www.infineon.com/dgdl/IPP028N08N3_Rev1%5B1%5D.0.pdf?folderId=db3a304313b8b5a60113cee8763b02d7&fileId=db3a30432313ff5e0123a3c08e7326b5
footprint INF-PG-TO220-3-1_A_V (FM, 3-Leads, Body 10.03x8.98mm, Pitch 2.54mm)
pins: 1 GATE, 2 DRAIN, 3 SOURCE

## IPP200N25N3 G
designator Q?
N-Channel OptiMOS 3 Power-Transistor, 250 V VDS, 64 A ID, -55 to 175 degC, PG-TO220-3-1, Tube, Green; Manufacturer: Infineon; PartNumber: IPP200N25N3 G; Green: TRUE; ID (max): 64 A; IDpuls (max): 256 A; Polarity: N; Ptot (max): 300 W; QG: 64 nC; RDS (on) (max): 20 mOhm; Rth: 0.5 K/W; RthJA (max): 62 K/W; VDS (max): 250 V; VGS(th) (max): 4 V; VGS(th) (min): 2 V; DatasheetVersion: Rev. 2.4; PackageVersion: Rev. 05, 08/2007; PackageReference: PG-TO220-3-1; PackageDescription: 3-Pin Plastic (Green) Transistor Single Outline Package, 10.03 x 8.98 mm Body, 2.54 mm Pitch; Supplier 1: Mouser; Supplier Part Number 1: 726-IPP200N25N3GXK; Supplier 2: Newark; Supplier Part Number 2: 47W3479; Supplier 3: Farnell; Supplier Part Number 3: 2212832; Supplier 4: Digi-Key; Supplier Part Number 4: IPP200N25N3 G-ND; Halogen-free: TRUE; Packing: Tube; RthJC (max): 0.5 K/W; Mounting Technology: Through Hole; ComponentLink1Description: Manufacturer URL; ComponentLink1URL: http://www.infineon.com/; ComponentLink2Description: Datasheet; ComponentLink2URL: http://www.infineon.com/dgdl/IPP_B_I_200N25N3+G+Rev2.4.pdf?folderId=db3a3043163797a6011637d4bae7003b&fileId=db3a3043243b5f17012496b87e9f1971; ComponentLink3Description: Package Specification; ComponentLink3URL: http://www.infineon.com/dgdl/IPP028N08N3_Rev1%5B1%5D.0.pdf?folderId=db3a304313b8b5a60113cee8763b02d7&fileId=db3a30432313ff5e0123a3c08e7326b5
footprint INF-PG-TO220-3-1_A_V (FM, 3-Leads, Body 10.03x8.98mm, Pitch 2.54mm)
pins: 1 GATE, 2 DRAIN, 3 SOURCE

## IPP220N25NFD
designator Q?
N-Channel OptiMOS(TM) FD Power-Transistor, 250 V VDS, 61 A ID, PG-TO220-3, Tube, Green; Manufacturer: Infineon; PartNumber: IPP220N25NFD; Green: TRUE; ID (max): 61 A; IDpuls (max): 244 A; Polarity: N; Ptot (max): 300 W; QG: 65 nC; RDS (on) (max): 22 mOhm; RthJA (max): 62 K/W; RthJC (max): 0.5 K/W; VDS (max): 250 V; VGS(th) (max): 4 V; VGS(th) (min): 2 V; DatasheetVersion: Rev. 2.0; PackageVersion: Rev. 05, 08/2007; PackageReference: PG-TO220-3-1_A; PackageDescription: 3-Pin Plastic (Green) Transistor Single Outline Package, 10.03 x 8.98 mm Body, 2.54 mm Pitch; Supplier 1: Mouser; Supplier Part Number 1: N/A; Halogen-free: TRUE; Mounting: THT; Packing: Tube; Technology: OptiMOS(TM)FD; Mounting Technology: Through Hole; ComponentLink1Description: Manufacturer URL; ComponentLink1URL: http://www.infineon.com/; ComponentLink2Description: Datasheet; ComponentLink2URL: http://www.infineon.com/dgdl/DS_IPP220N25NFD_2_0.pdf?folderId=db3a304325305e6d012596c6ca7b290a&fileId=db3a3043440adf7501440cad711f0178; ComponentLink3Description: Package Specification; ComponentLink3URL: http://www.infineon.com/dgdl/IKP30N65H5_2_1.pdf?folderId=db3a3043156fd5730115f56849b61941&fileId=5546d461464245d30146a51a2ca36d28
footprint INF-PG-TO220-3-1_A_V (FM, 3-Leads, Body 10.03x8.98mm, Pitch 2.54mm)
pins: 1 GATE, 2 DRAIN, 3 SOURCE

## IPP230N06L3 G
designator Q?
N-Channel OptiMOS 3 Power-Transistor, 60 V VDS, 30 A ID, -55 to 175 degC, PG-TO220-3-1, Tube, Green; Manufacturer: Infineon; PartNumber: IPP230N06L3 G; Green: TRUE; ID (max): 30 A; IDpuls (max): 120 A; Polarity: N; Ptot (max): 36 W; QG: 7 nC; RDS (on) (max): 23 mOhm; RDS (on) (max) (@4.5V): 40.8 mOhm; Rth: 4.2 K/W; RthJA (max): 62 K/W; RthJC (max): 4.2 K/W; VDS (max): 60 V; VGS(th) (max): 2.2 V; VGS(th) (min): 1.2 V; DatasheetVersion: Rev. 2.2; PackageVersion: Rev. 05, 08/2007; PackageReference: PG-TO220-3-1; PackageDescription: 3-Pin Plastic (Green) Transistor Single Outline Package, 10.03 x 8.98 mm Body, 2.54 mm Pitch; Supplier 1: Mouser; Supplier Part Number 1: 726-IPP230N06L3G; Supplier 2: Digi-Key; Supplier Part Number 2: IPP230N06L3 G-ND; Halogen-free: TRUE; Packing: Tube; Mounting Technology: Through Hole; ComponentLink1Description: Manufacturer URL; ComponentLink1URL: http://www.infineon.com/; ComponentLink2Description: Datasheet; ComponentLink2URL: http://www.infineon.com/dgdl/IPP_B230N06L3_Rev2.2_.pdf?folderId=db3a304313b8b5a60113cee8763b02d7&fileId=db3a30432313ff5e0123a3627b2325fa; ComponentLink3Description: Package Specification; ComponentLink3URL: http://www.infineon.com/dgdl/IPP028N08N3_Rev1%5B1%5D.0.pdf?folderId=db3a304313b8b5a60113cee8763b02d7&fileId=db3a30432313ff5e0123a3c08e7326b5
footprint INF-PG-TO220-3-1_A_V (FM, 3-Leads, Body 10.03x8.98mm, Pitch 2.54mm)
pins: 1 GATE, 2 DRAIN, 3 SOURCE

## IPP320N20N3 G
designator Q?
N-Channel OptiMOS 3 Power-Transistor, 200 V VDS, 34 A ID, -55 to 175 degC, PG-TO220-3-1, Tube, Green; Manufacturer: Infineon; PartNumber: IPP320N20N3 G; Green: TRUE; ID (max): 34 A; IDpuls (max): 136 A; Polarity: N; Ptot (max): 136 W; QG: 22 nC; RDS (on) (max): 32 mOhm; Rth: 1.1 K/W; RthJA (max): 62 K/W; VDS (max): 200 V; VGS(th) (max): 4 V; VGS(th) (min): 2 V; DatasheetVersion: Rev. 2.3; PackageVersion: Rev. 05, 08/2007; PackageReference: PG-TO220-3-1; PackageDescription: 3-Pin Plastic (Green) Transistor Single Outline Package, 10.03 x 8.98 mm Body, 2.54 mm Pitch; Supplier 1: Mouser; Supplier Part Number 1: 726-IPP320N20N3GXK; Supplier 2: Newark; Supplier Part Number 2: 47W3480; Supplier 3: Farnell; Supplier Part Number 3: 2212867; Supplier 4: Digi-Key; Supplier Part Number 4: IPP320N20N3 G-ND; Halogen-free: TRUE; Packing: Tube; RthJC (max): 1.1 K/W; Mounting Technology: Through Hole; ComponentLink1Description: Manufacturer URL; ComponentLink1URL: http://www.infineon.com/; ComponentLink2Description: Datasheet; ComponentLink2URL: http://www.infineon.com/dgdl/IPP_B_I_320N20N3+G+Rev2.3.pdf?folderId=db3a3043163797a6011637d4bae7003b&fileId=db3a3043243b5f170124967064ba184a; ComponentLink3Description: Package Specification; ComponentLink3URL: http://www.infineon.com/dgdl/IPP028N08N3_Rev1%5B1%5D.0.pdf?folderId=db3a304313b8b5a60113cee8763b02d7&fileId=db3a30432313ff5e0123a3c08e7326b5
footprint INF-PG-TO220-3-1_A_V (FM, 3-Leads, Body 10.03x8.98mm, Pitch 2.54mm)
pins: 1 GATE, 2 DRAIN, 3 SOURCE

## IPP530N15N3 G
designator Q?
N-Channel OptiMOS 3 Power-Transistor, 150 V VDS, 21 A ID, -55 to 175 degC, PG-TO220-3-1, Tube, Green; Manufacturer: Infineon; PartNumber: IPP530N15N3 G; Green: TRUE; ID (max): 21 A; IDpuls (max): 84 A; Polarity: N; Ptot (max): 68 W; QG: 8.7 nC; RDS (on) (max): 53 mOhm; Rth: 2.2 K/W; RthJA (max): 62 K/W; VDS (max): 150 V; VGS(th) (max): 4 V; VGS(th) (min): 2 V; DatasheetVersion: Rev. 2.5; PackageVersion: Rev. 05, 08/2007; PackageReference: PG-TO220-3-1; PackageDescription: 3-Pin Plastic (Green) Transistor Single Outline Package, 10.03 x 8.98 mm Body, 2.54 mm Pitch; Supplier 1: Mouser; Supplier Part Number 1: 726-IPP530N15N3G; Supplier 2: Newark; Supplier Part Number 2: 47W3481; Supplier 3: Farnell; Supplier Part Number 3: 2212902; Supplier 4: Digi-Key; Supplier Part Number 4: IPP530N15N3 G-ND; Halogen-free: TRUE; Packing: Tube; RthJC (max): 2.2 K/W; Mounting Technology: Through Hole; ComponentLink1Description: Manufacturer URL; ComponentLink1URL: http://www.infineon.com/; ComponentLink2Description: Datasheet; ComponentLink2URL: http://www.infineon.com/dgdl/IPD530N15N3_Rev2.5.pdf?folderId=db3a304326623792012669f6bee2224b&fileId=db3a30432662379201266a1f6dd2227c; ComponentLink3Description: Package Specification; ComponentLink3URL: http://www.infineon.com/dgdl/IPP028N08N3_Rev1%5B1%5D.0.pdf?folderId=db3a304313b8b5a60113cee8763b02d7&fileId=db3a30432313ff5e0123a3c08e7326b5
footprint INF-PG-TO220-3-1_A_V (FM, 3-Leads, Body 10.03x8.98mm, Pitch 2.54mm)
pins: 1 GATE, 2 DRAIN, 3 SOURCE

## IPP600N25N3 G
designator Q?
N-Channel OptiMOS 3 Power-Transistor, 250 V VDS, 25 A ID, -55 to 175 degC, PG-TO220-3-1, Tube, Green; Manufacturer: Infineon; PartNumber: IPP600N25N3 G; Green: TRUE; ID (max): 25 A; IDpuls (max): 100 A; Polarity: N; Ptot (max): 136 W; QG: 22 nC; RDS (on) (max): 60 mOhm; Rth: 1.1 K/W; RthJA (max): 62 K/W; VDS (max): 250 V; VGS(th) (max): 4 V; VGS(th) (min): 2 V; DatasheetVersion: Rev. 2.3; PackageVersion: Rev. 05, 08/2007; PackageReference: PG-TO220-3-1; PackageDescription: 3-Pin Plastic (Green) Transistor Single Outline Package, 10.03 x 8.98 mm Body, 2.54 mm Pitch; Supplier 1: Mouser; Supplier Part Number 1: 726-IPP600N25N3GXK; Supplier 2: Newark; Supplier Part Number 2: 47W3483; Supplier 3: Farnell; Supplier Part Number 3: 2212879; Supplier 4: Digi-Key; Supplier Part Number 4: IPP600N25N3 G-ND; Halogen-free: TRUE; Packing: Tube; RthJC (max): 1.1 K/W; Mounting Technology: Through Hole; ComponentLink1Description: Manufacturer URL; ComponentLink1URL: http://www.infineon.com/; ComponentLink2Description: Datasheet; ComponentLink2URL: http://www.infineon.com/dgdl/IPP_B_600N25N3+G+Rev2.3.pdf?folderId=db3a3043163797a6011637d4bae7003b&fileId=db3a3043243b5f17012496c9548d199c; ComponentLink3Description: Package Specification; ComponentLink3URL: http://www.infineon.com/dgdl/IPP028N08N3_Rev1%5B1%5D.0.pdf?folderId=db3a304313b8b5a60113cee8763b02d7&fileId=db3a30432313ff5e0123a3c08e7326b5
footprint INF-PG-TO220-3-1_A_V (FM, 3-Leads, Body 10.03x8.98mm, Pitch 2.54mm)
pins: 1 GATE, 2 DRAIN, 3 SOURCE